# EAGLE library part M5033 (library lolomolo)
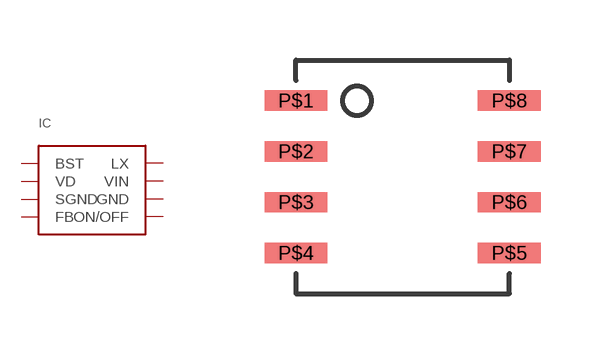
[diagram p17: symbol with the pads of SOIC-8; footprint SOIC-8]

Designator prefix IC

## M5033  [SOIC-8]
P$1  BST
P$2  VD
P$3  SGND
P$4  FB
P$5  ON/OFF
P$6  GND
P$7  VIN
P$8  LX

## Footprint SOIC-8 (pad centres in mm)
smd 1.575 x 0.508: P$1 0,3.81; P$2 0,2.54; P$3 0,1.27; P$4 0,0; P$5 5.334,0; P$6 5.334,1.27; P$7 5.334,2.54; P$8 5.334,3.81